# Altium footprint library imus.PcbLib: 3 footprints
Each footprint in its own frame and in the unit in brackets; x right, y up, seen from the top. Pads: shape width x height; smd on the part's side, far side on the other; paste and mask are expansions set on the pad; w line width, h text height; cw(c..) or ccw(c..) is an arc to the next point about the centre after c.
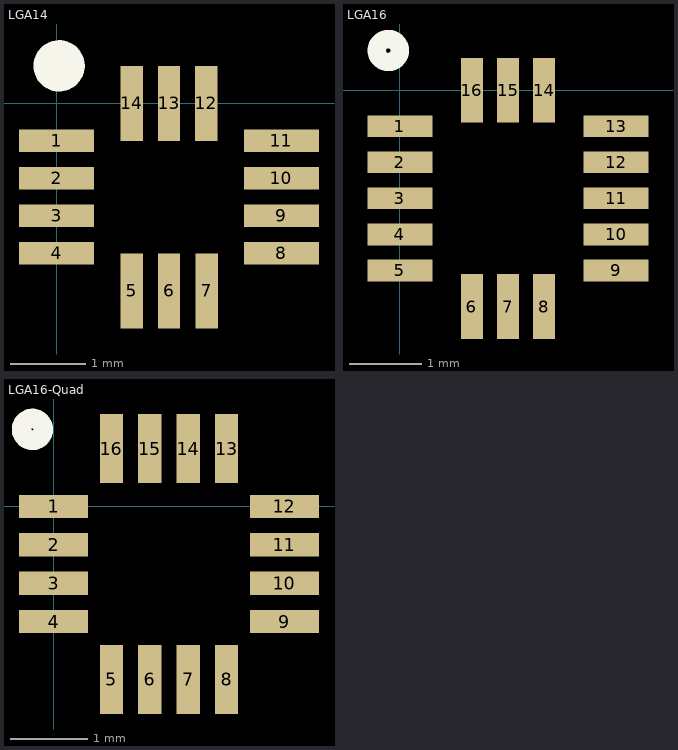
[diagram p0: the footprints below, top view; thin cyan lines are the x and y axes]

## LGA14 [mm]
pads (14):
  rect 1x0.3 smd: 1(0,-0.5) 2(0,-1) 3(0,-1.5) 4(0,-2) 8(3,-2) 9(3,-1.5) 10(3,-1) 11(3,-0.5)
  rect 0.3x1 smd: 5(1,-2.5) 6(1.5,-2.5) 7(2,-2.5) 12(2,0) 13(1.5,0) 14(1,0)
Top Overlay:
  circle w0.254: c0.035,0.5 r0.215
  circle w0.254: c0.025,0.525 r0.035

## LGA16 [mm]
pads (16):
  rect 0.9x0.3 smd: 1(0,-0.5) 2(0,-1) 3(0,-1.5) 4(0,-2) 5(0,-2.5) 9(3,-2.5) 10(3,-2) 11(3,-1.5) 12(3,-1) 13(3,-0.5)
  rect 0.3x0.9 smd: 6(1,-3) 7(1.5,-3) 8(2,-3) 14(2,0) 15(1.5,0) 16(1,0)
Top Overlay:
  circle w0.254: c-0.16,0.55 r0.16

## LGA16-Quad [mm]
pads (16):
  rect 0.9x0.3 smd: 1(0,0) 2(0,-0.5) 3(0,-1) 4(0,-1.5) 9(3,-1.5) 10(3,-1) 11(3,-0.5) 12(3,0)
  rect 0.3x0.9 smd: 5(0.75,-2.25) 6(1.25,-2.25) 7(1.75,-2.25) 8(2.25,-2.25) 13(2.25,0.75) 14(1.75,0.75) 15(1.25,0.75) 16(0.75,0.75)
Top Overlay:
  circle w0.254: c-0.275,1 r0.141